# EAGLE library part EUROCARD-48FABC (library ebd-con)
EuroCard Female 48 pins on rows A B C Right Angled
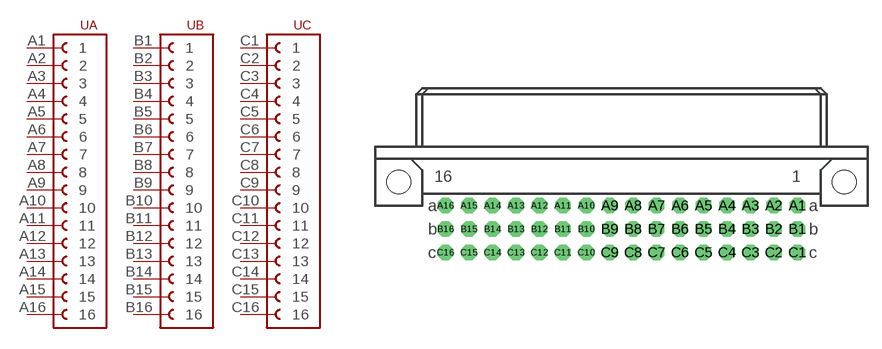
[diagram p0: symbol with the pads of EUROCARD-48FABCR; footprint EUROCARD-48FABCR]

Designator prefix -; gates A=EUROCARD-16 B=EUROCARD-16 C=EUROCARD-16

## EUROCARD-48FABCEUROCARD-48FABCR  [EUROCARD-48FABCR]
A1  A:1
A2  A:2
A3  A:3
A4  A:4
A5  A:5
A6  A:6
A7  A:7
A8  A:8
A9  A:9
A10  A:10
A11  A:11
A12  A:12
A13  A:13
A14  A:14
A15  A:15
A16  A:16
B1  B:1
B2  B:2
B3  B:3
B4  B:4
B5  B:5
B6  B:6
B7  B:7
B8  B:8
B9  B:9
B10  B:10
B11  B:11
B12  B:12
B13  B:13
B14  B:14
B15  B:15
B16  B:16
C1  C:1
C2  C:2
C3  C:3
C4  C:4
C5  C:5
C6  C:6
C7  C:7
C8  C:8
C9  C:9
C10  C:10
C11  C:11
C12  C:12
C13  C:13
C14  C:14
C15  C:15
C16  C:16

## Footprint EUROCARD-48FABCR (pad centres in mm)
48 pins Female connector right angled
drill 1.016 pad 1.676 octagon: A1 20.32,-2.54; A2 17.78,-2.54; A3 15.24,-2.54; A4 12.7,-2.54; A5 10.16,-2.54; A6 7.62,-2.54; A7 5.08,-2.54; A8 2.54,-2.54; A9 0,-2.54; A10 -2.54,-2.54; A11 -5.08,-2.54; A12 -7.62,-2.54; A13 -10.16,-2.54; A14 -12.7,-2.54; A15 -15.24,-2.54; A16 -17.78,-2.54; B1 20.32,-5.08; B2 17.78,-5.08; B3 15.24,-5.08; B4 12.7,-5.08; B5 10.16,-5.08; B6 7.62,-5.08; B7 5.08,-5.08; B8 2.54,-5.08; B9 0,-5.08; B10 -2.54,-5.08; B11 -5.08,-5.08; B12 -7.62,-5.08; B13 -10.16,-5.08; B14 -12.7,-5.08; B15 -15.24,-5.08; B16 -17.78,-5.08; C1 20.32,-7.62; C2 17.78,-7.62; C3 15.24,-7.62; C4 12.7,-7.62; C5 10.16,-7.62; C6 7.62,-7.62; C7 5.08,-7.62; C8 2.54,-7.62; C9 0,-7.62; C10 -2.54,-7.62; C11 -5.08,-7.62; C12 -7.62,-7.62; C13 -10.16,-7.62; C14 -12.7,-7.62; C15 -15.24,-7.62; C16 -17.78,-7.62